# Altium schematic symbol library Amplifiers.SchLib: 1 symbol
Pins are listed as number, name and electrical type; pins without a type are passive.

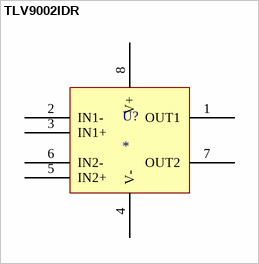
[diagram p0: symbol TLV9002IDR]

## TLV9002IDR
designator U?
General Purpose Amplifier 2 Circuit Rail-to-Rail 8-SOIC
footprint TLV9002IDR (General Purpose Amplifier 2 Circuit Rail-to-Rail 8-SOIC)
pins: 1 OUT1, 2 IN1-, 3 IN1+, 4 V-, 5 IN2+, 6 IN2-, 7 OUT2, 8 V+